# Altium footprint library 给学生的封装库.PcbLib: 20 footprints (part 2 of 2)
Each footprint in its own frame and in the unit in brackets; x right, y up, seen from the top. Pads: shape width x height; smd on the part's side, far side on the other; paste and mask are expansions set on the pad; w line width, h text height; cw(c..) or ccw(c..) is an arc to the next point about the centre after c.
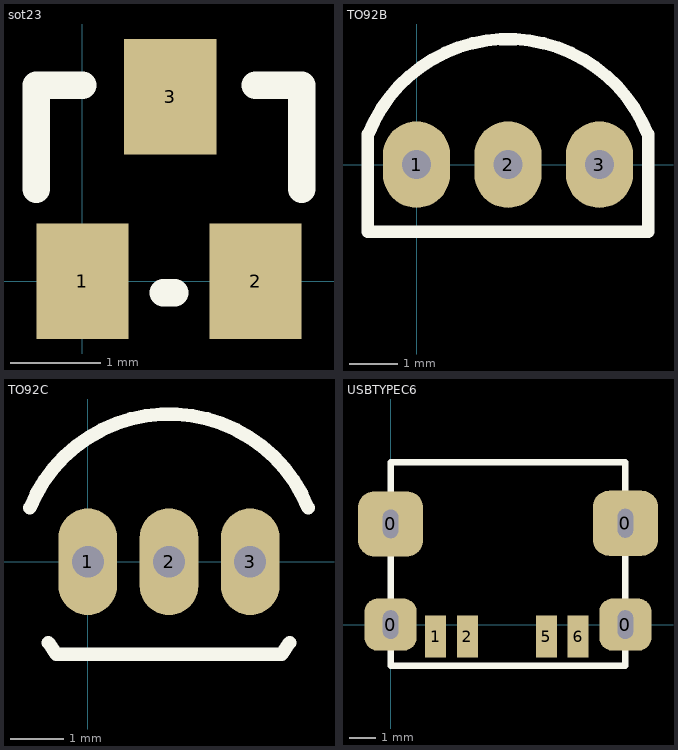
[diagram p1: the footprints below, top view; thin cyan lines are the x and y axes]

## sot23 [mil]
pads (3):
  rect 40x50 smd: 1(0,0) 2(75,0) 3(38,80)
Top Overlay:
  lines w12: -20,40 -20,85 0,85 ; 35,-5 40,-5 ; 75,85 95,85 95,40

## TO92B [mm]
pads (3):
  oval 1.4x1.8 hole 0.6: 1(0,0) 2(1.905,0) 3(3.81,0)
Top Overlay:
  lines w0.254: -1.016,0.635 -1.016,-1.397 4.826,-1.397 4.826,0.635 ; -1.004,0.63 cw(c1.905,-0.508) 4.814,0.63

## TO92C [mm]
height 5.6
pads (3):
  oval 1.1x2 hole 0.6: 1(0,0) 2(1.524,0) 3(3.048,0)
Top Overlay:
  lines w0.254: -1.086,1.012 cw(c1.524,-0.042) 4.134,1.012 ; -0.739,-1.517 -0.593,-1.736 3.641,-1.736 3.787,-1.517

## USBTYPEC6 [mm]
pads (8):
  rrect50% 2x2 hole 0.6 slot 1.1 at 90 deg: 0(0,0) 0(9,0)
  rrect50% 2.5x2.5 hole 0.6 slot 1.1 at 90 deg: 0(0,3.861) 0(9,3.886)
  rect 0.8x1.6 smd: 1(1.727,-0.457) 2(2.946,-0.457) 5(5.972,-0.457) 6(7.188,-0.457)
Top Overlay:
  lines w0.254: 0,-1.575 9,-1.575 9,6.223 0,6.223 0,-1.575